# EAGLE library part PDM_2019_REVB_OKL-T/1-W12N-C (library PDM_2019_RevB)
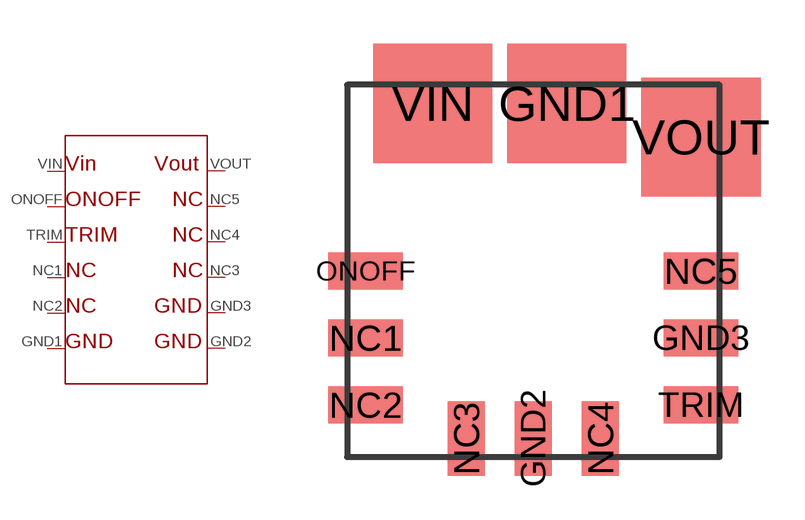
[diagram p1: symbol with the pads of PDM_2019_REVB_OKL-T/1-W12N-C; footprint PDM_2019_REVB_OKL-T/1-W12N-C]

Designator prefix -

## PDM_2019_REVB_OKL-T/1-W12N-C  [PDM_2019_REVB_OKL-T/1-W12N-C]
GND1  GND1  pas
GND2  GND2  pas
GND3  GND3  pas
NC1  NC1  pas
NC2  NC2  pas
NC3  NC3  pas
NC4  NC4  pas
NC5  NC5  pas
ONOFF  ONOFF  pas
TRIM  TRIM  pas
VIN  VIN  pas
VOUT  VOUT  pas

## Footprint PDM_2019_REVB_OKL-T/1-W12N-C (pad centres in mm)
smd 4.064 x 4.064: GND1 1.143,5.715; VIN -3.429,5.715; VOUT 5.715,4.572
smd 1.27 x 2.54: GND2 0,-5.715; NC3 -2.286,-5.715; NC4 2.286,-5.715
smd 2.54 x 1.27: GND3 5.715,-2.286; NC1 -5.715,-2.286; NC2 -5.715,-4.572; NC5 5.715,0; ONOFF -5.715,0; TRIM 5.715,-4.572